# Altium schematic symbol library SRP6060FA-220M.SchLib: 1 symbol
Pins are listed as number, name and electrical type; pins without a type are passive.

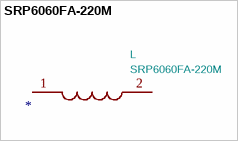
[diagram p0: symbol SRP6060FA-220M]

## SRP6060FA-220M
designator L  value SRP6060FA-220M
Fixed Inductors 22uH 20% 5A; Manufacturer_Name: Bourns; Allied_Number: 71262024; Footprint: SRP6060FA220M; Supplier: https://www.bourns.com/docs/Product-Datasheets/SRP6060FA.pdf; Description_: Fixed Inductors 22uH 20% 5A; Height: 6; Manufacturer_Part_Number: SRP6060FA-220M; Mouser Part Number: 652-SRP6060FA-220M; Mouser Price/Stock: https://www.mouser.com/Search/Refine.aspx?Keyword=652-SRP6060FA-220M; Allied Price/Stock: https://www.alliedelec.com/bourns-srp6060fa-220m/71262024/
footprint SRP6060FA220M
pins: 1, 2